# EAGLE library part ADI-PHASE-2_AD7294BSUZ (library eagle-template-export)
TQFP-64,12-Bit Monitor and Control System
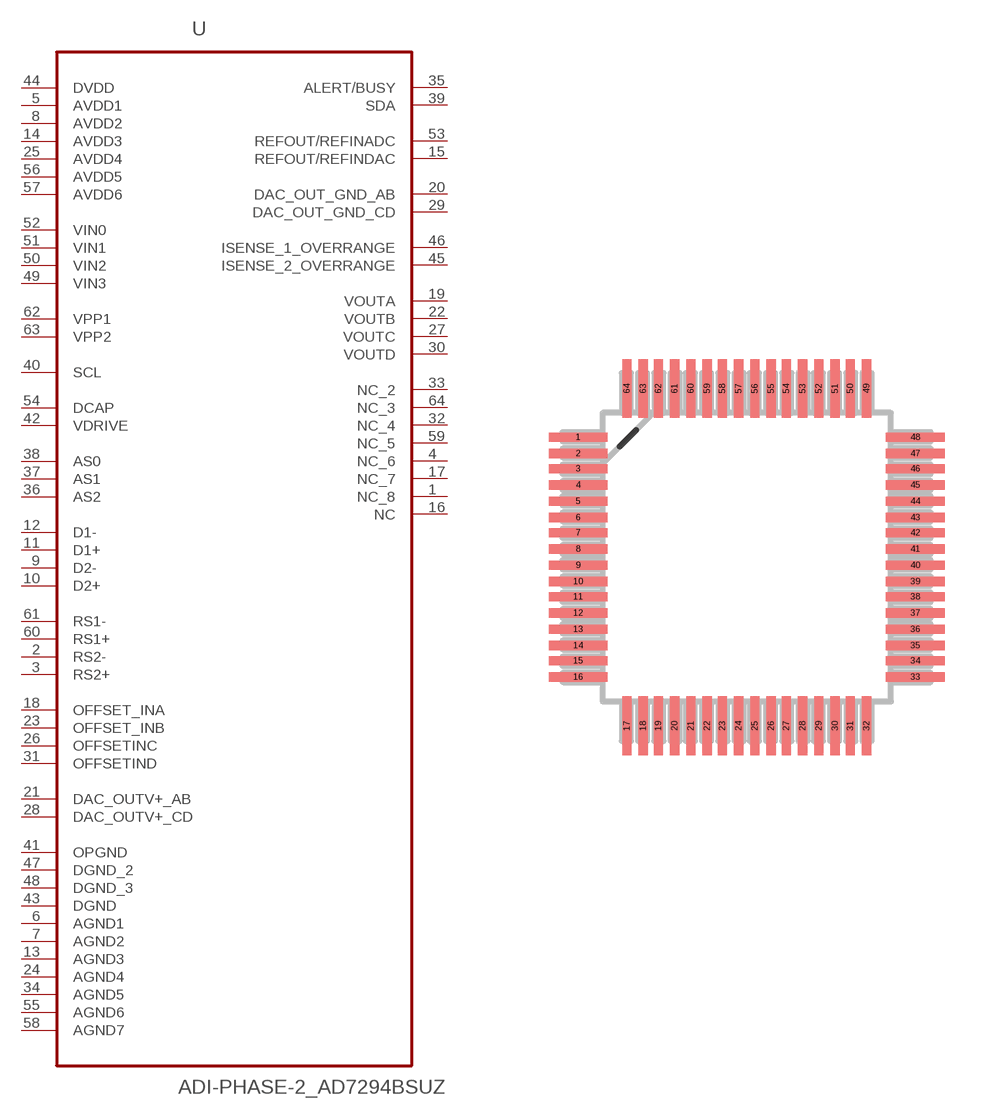
[diagram p1: symbol with the pads of ADI-PHASE-2_QFP40P900X900X120-64N; footprint ADI-PHASE-2_QFP40P900X900X120-64N]

Designator prefix U

## ADI-PHASE-2_AD7294BSUZ (MPN: AD7294BSUZ; OC_FARNELL: 1607230; OC_NEWARK: 84M7804; PACKAGE: TQFP-64; SUPPLIER: Analog Devices)  [ADI-PHASE-2_QFP40P900X900X120-64N]
1  NC_8  nc
2  RS2-  pas
3  RS2+  pas
4  NC_6  nc
5  AVDD1  pwr
6  AGND1  pas
7  AGND2  pas
8  AVDD2  pwr
9  D2-  in
10  D2+  in
11  D1+  in
12  D1-  in
13  AGND3  pas
14  AVDD3  pwr
15  REFOUT/REFINDAC
16  NC  nc
17  NC_7  nc
18  OFFSET_INA  in
19  VOUTA  out
20  DAC_OUT_GND_AB  pas
21  DAC_OUTV+_AB  pwr
22  VOUTB  out
23  OFFSET_INB  in
24  AGND4  pas
25  AVDD4  pwr
26  OFFSETINC  in
27  VOUTC  out
28  DAC_OUTV+_CD  pwr
29  DAC_OUT_GND_CD  pas
30  VOUTD  out
31  OFFSETIND  in
32  NC_4  nc
33  NC_2  nc
34  AGND5  pas
35  ALERT/BUSY  out
36  AS2  in
37  AS1  in
38  AS0  in
39  SDA
40  SCL  pas
41  OPGND  pas
42  VDRIVE  pwr
43  DGND  pas
44  DVDD  pwr
45  ISENSE_2_OVERRANGE  out
46  ISENSE_1_OVERRANGE  out
47  DGND_2  pas
48  DGND_3  pas
49  VIN3  in
50  VIN2  in
51  VIN1  in
52  VIN0  in
53  REFOUT/REFINADC
54  DCAP  in
55  AGND6  pas
56  AVDD5  pwr
57  AVDD6  pwr
58  AGND7  pas
59  NC_5  nc
60  RS1+  pas
61  RS1-  pas
62  VPP1  pwr
63  VPP2  pwr
64  NC_3  nc

## Footprint ADI-PHASE-2_QFP40P900X900X120-64N (pad centres in mm)
smd 1.473 x 0.229: 1 -4.216,2.997; 2 -4.216,2.591; 3 -4.216,2.21; 4 -4.216,1.803; 5 -4.216,1.397; 6 -4.216,0.991; 7 -4.216,0.61; 8 -4.216,0.203; 9 -4.216,-0.203; 10 -4.216,-0.61; 11 -4.216,-0.991; 12 -4.216,-1.397; 13 -4.216,-1.803; 14 -4.216,-2.21; 15 -4.216,-2.591; 16 -4.216,-2.997; 33 4.216,-2.997; 34 4.216,-2.591; 35 4.216,-2.21; 36 4.216,-1.803; 37 4.216,-1.397; 38 4.216,-0.991; 39 4.216,-0.61; 40 4.216,-0.203; 41 4.216,0.203; 42 4.216,0.61; 43 4.216,0.991; 44 4.216,1.397; 45 4.216,1.803; 46 4.216,2.21; 47 4.216,2.591; 48 4.216,2.997
smd 0.229 x 1.473: 17 -2.997,-4.216; 18 -2.591,-4.216; 19 -2.21,-4.216; 20 -1.803,-4.216; 21 -1.397,-4.216; 22 -0.991,-4.216; 23 -0.61,-4.216; 24 -0.203,-4.216; 25 0.203,-4.216; 26 0.61,-4.216; 27 0.991,-4.216; 28 1.397,-4.216; 29 1.803,-4.216; 30 2.21,-4.216; 31 2.591,-4.216; 32 2.997,-4.216; 49 2.997,4.216; 50 2.591,4.216; 51 2.21,4.216; 52 1.803,4.216; 53 1.397,4.216; 54 0.991,4.216; 55 0.61,4.216; 56 0.203,4.216; 57 -0.203,4.216; 58 -0.61,4.216; 59 -0.991,4.216; 60 -1.397,4.216; 61 -1.803,4.216; 62 -2.21,4.216; 63 -2.591,4.216; 64 -2.997,4.216